# EAGLE library part SN74LV163APWR (library GuardBunny)
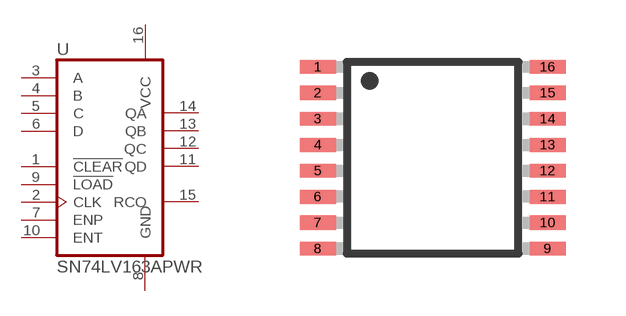
[diagram p0: symbol with the pads of TSSOP16; footprint TSSOP16]

Designator prefix -

## SN74LV163APWR  [TSSOP16]
1  !CLEAR  in
2  CLK  in
3  A  in
4  B  in
5  C  in
6  D  in
7  ENP  in
8  GND
9  !LOAD  in
10  ENT  in
11  QD  out
12  QC  out
13  QB  out
14  QA  out
15  RCO  out
16  VCC

## Footprint TSSOP16 (pad centres in mm)
smd 0.9 x 0.35: 1 -2.875,2.275; 2 -2.875,1.625; 3 -2.875,0.975; 4 -2.875,0.325; 5 -2.875,-0.325; 6 -2.875,-0.975; 7 -2.875,-1.625; 8 -2.875,-2.275; 9 2.875,-2.275; 10 2.875,-1.625; 11 2.875,-0.975; 12 2.875,-0.325; 13 2.875,0.325; 14 2.875,0.975; 15 2.875,1.625; 16 2.875,2.275